# Altium footprint library SJ3523SMTTR.PcbLib: 1 footprints
Each footprint in its own frame and in the unit in brackets; x right, y up, seen from the top. Pads: shape width x height; smd on the part's side, far side on the other; paste and mask are expansions set on the pad; w line width, h text height; cw(c..) or ccw(c..) is an arc to the next point about the centre after c.
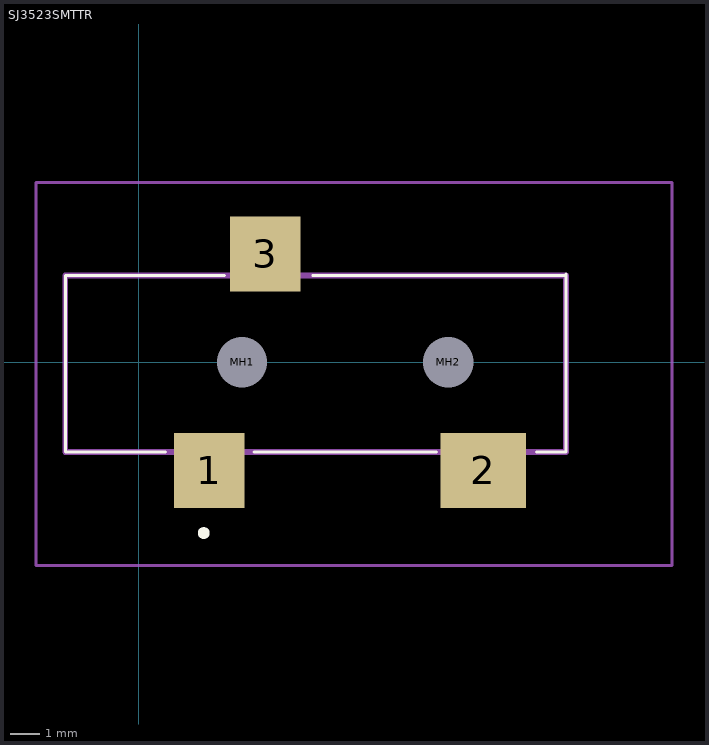
[diagram p0: the footprint, top view; thin cyan lines are the x and y axes]

## SJ3523SMTTR [mm]
pads (5):
  rect 2.4x2.55 smd: 1(2.385,-3.675) 3(4.285,3.675)
  rect 2.9x2.55 smd: 2(11.685,-3.675)
  round 0.85 hole 1.7 unplated: MH1(3.5,0) MH2(10.5,0)
Top Overlay:
  lines w0.1: 0.9,-3.05 -2.5,-3.05 -2.5,2.95 2.9,2.95 ; 3.9,-3.05 10.1,-3.05 ; 5.9,2.95 14.5,2.95 ; 13.5,-3.05 14.5,-3.05 14.5,-1.5 14.5,3
  lines w0.2: 2.1,-5.8 cw(c2.2,-5.8) 2.3,-5.8 cw(c2.2,-5.8) 2.1,-5.8
Mechanical 15:
  lines w0.2: -2.5,-3.05 -2.5,2.95 14.5,2.95 14.5,-3.05 -2.5,-3.05
Mechanical 20:
  lines w0.1: -3.5,-6.9 -3.5,6.1 18.1,6.1 18.1,-6.9 -3.5,-6.9
3D body "SJ-3523-SMT-TR--3DModel-STEP-1.STEP": height 5.55, standoff -0.25, extent -2.531,-4.555 14.469,4.445